# Altium schematic symbol library tsl_Schlib.SchLib: 381 symbols (part 3 of 3)
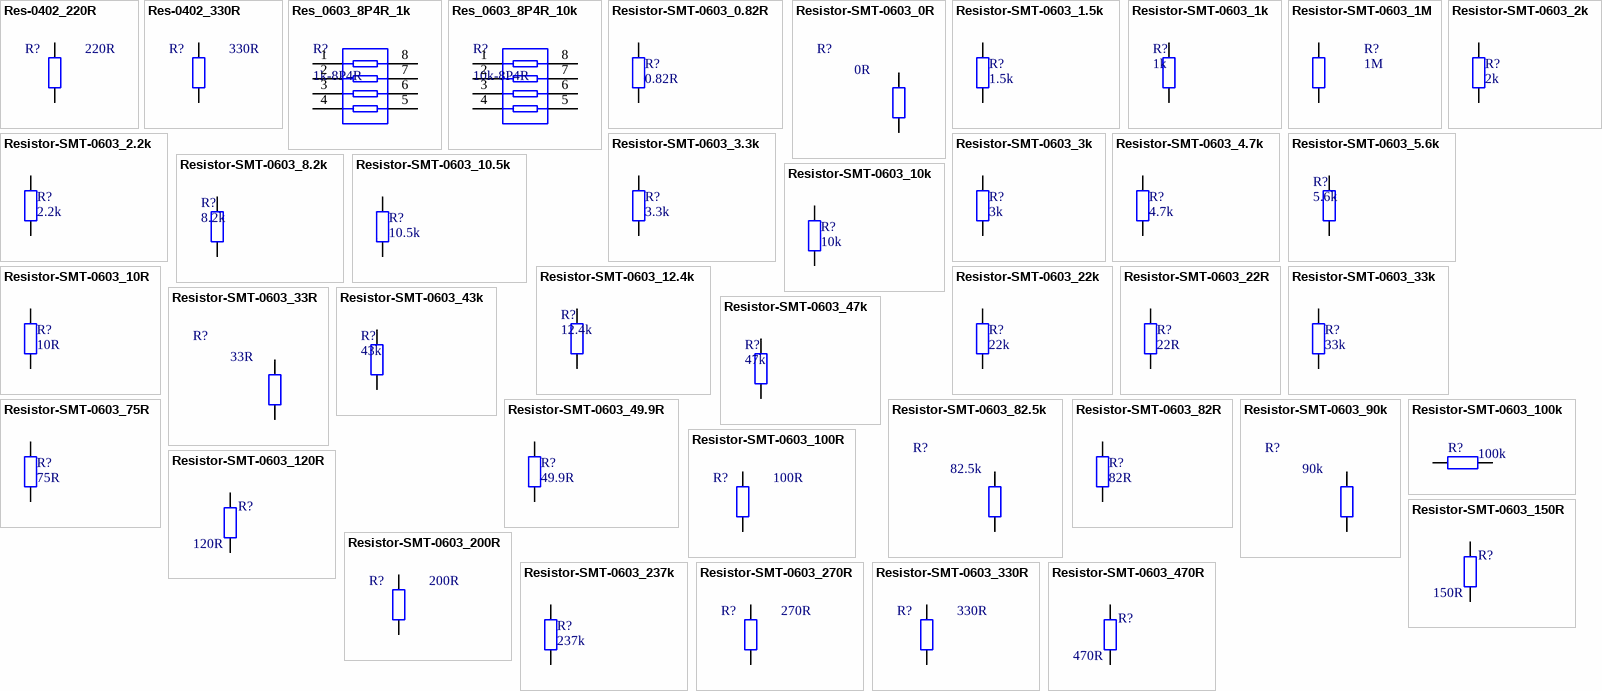
[diagram p12: symbols Res-0402_220R to Resistor-SMT-0603_470R]

## Resistor-SMT-0603_33R
designator R?, comment 33R
表贴电阻,0603,±1%,1/10W; Manufacturer: YAGO; Part Number: RP02.03.000154; LatestRevisionDate: 09-Feb-2017; LatestRevisionNote: SCHlib build; Publisher: ChenYinaho; PackageDescription: 0603R; Manufacturer Part Number: *; Value: 33R
footprint R0603
pins: 1, 2

## Resistor-SMT-0603_43k
designator R?, comment 43k
表贴电阻,0603,±5%,1/10W; Manufacturer: YAGO; Part Number: RP02.03.000151; LatestRevisionDate: 09-Feb-2017; LatestRevisionNote: SCHlib build; Publisher: ChenYinaho; PackageDescription: 0603R; Manufacturer Part Number: *; Value: 43k
footprint R0603
pins: 1, 2

## Resistor-SMT-0603_47k
designator R?, comment 47k
表贴电阻,0603,±5%,1/10W; Manufacturer: YAGO; Part Number: RP02.03.000061; LatestRevisionDate: 09-Feb-2017; LatestRevisionNote: SCHlib build; Publisher: ChenYinaho; PackageDescription: 0603R; Manufacturer Part Number: *; Value: 47k
footprint R0603
pins: 1, 2

## Resistor-SMT-0603_49.9R
designator R?, comment 49.9R
表贴电阻,0603,±1%,1/10W; Manufacturer: YAGO; Part Number: RP02.03.000089; LatestRevisionDate: 09-Feb-2017; LatestRevisionNote: SCHlib build; Publisher: ChenYinaho; PackageDescription: 0603R; Manufacturer Part Number: *; Value: 49.9R
footprint R0603
pins: 1, 2

## Resistor-SMT-0603_75R
designator R?, comment 75R
表贴电阻,0603,±5%,1/10W; Manufacturer: YAGO; Part Number: RP02.03.000091; LatestRevisionDate: 09-Feb-2017; LatestRevisionNote: SCHlib build; Publisher: ChenYinaho; PackageDescription: 0603R; Manufacturer Part Number: *; Value: 75R
footprint R0603
pins: 1, 2

## Resistor-SMT-0603_82.5k
designator R?, comment 82.5k
表贴电阻,0603,±1%,1/10W; Manufacturer: YAGO; Part Number: RP02.03.000101; LatestRevisionDate: 09-Feb-2017; LatestRevisionNote: SCHlib build; Publisher: ChenYinaho; PackageDescription: 0603R; Manufacturer Part Number: *; Value: 82.5k
footprint R0603
pins: 1, 2

## Resistor-SMT-0603_82R
designator R?, comment 82R
表贴电阻,0603,±5%,1/10W; Manufacturer: YAGO; Part Number: RP02.03.000157; LatestRevisionDate: 09-Feb-2017; LatestRevisionNote: SCHlib build; Publisher: ChenYinaho; PackageDescription: 0603R; Manufacturer Part Number: *; Value: 82R
footprint R0603
pins: 1, 2

## Resistor-SMT-0603_90k
designator R?, comment 90k
表贴电阻,0603,±5%,1/10W; Manufacturer: YAGO; Part Number: RP02.03.000159; LatestRevisionDate: 09-Feb-2017; LatestRevisionNote: SCHlib build; Publisher: ChenYinaho; PackageDescription: 0603R; Manufacturer Part Number: *; Value: 90k
footprint R0603
pins: 1, 2

## Resistor-SMT-0603_100k
designator R?, comment 100k
表贴电阻,0603,±5%,1/10W; Manufacturer: YAGO; Part Number: RP02.03.000052; LatestRevisionDate: 09-Feb-2017; LatestRevisionNote: SCHlib build; Publisher: ChenYinaho; PackageDescription: 0603R; Manufacturer Part Number: *; Value: 100k
footprint R0603
pins: 1, 2

## Resistor-SMT-0603_100R
designator R?, comment 100R
表贴电阻,0603,±5%,1/10W; Manufacturer: YAGO; Part Number: RP02.03.000053; LatestRevisionDate: 09-Feb-2017; LatestRevisionNote: SCHlib build; Publisher: ChenYinaho; PackageDescription: 0603R; Manufacturer Part Number: *; Value: 100R
footprint R0603
pins: 1, 2

## Resistor-SMT-0603_120R
designator R?, comment 120R
表贴电阻,0603,±5%,1/10W; Manufacturer: YAGO; Part Number: RP02.03.000105; LatestRevisionDate: 09-Feb-2017; LatestRevisionNote: SCHlib build; Publisher: ChenYinaho; PackageDescription: 0603R; Manufacturer Part Number: *; Value: 120R
footprint R0603
pins: 1, 2

## Resistor-SMT-0603_150R
designator R?, comment 150R
表贴电阻,0603,±5%,1/10W; Manufacturer: YAGO; Part Number: RP02.03.000153; LatestRevisionDate: 09-Feb-2017; LatestRevisionNote: SCHlib build; Publisher: ChenYinaho; PackageDescription: 0603R; Manufacturer Part Number: *; Value: 150R
footprint R0603
pins: 1, 2

## Resistor-SMT-0603_200R
designator R?, comment 200R
表贴电阻,0603,±5%,1/10W; Manufacturer: YAGO; Part Number: RP02.03.000106; LatestRevisionDate: 09-Feb-2017; LatestRevisionNote: SCHlib build; Publisher: ChenYinaho; PackageDescription: 0603R; Manufacturer Part Number: *; Value: 200R
footprint R0603
pins: 1, 2

## Resistor-SMT-0603_237k
designator R?, comment 237k
表贴电阻,0603,±1%,1/10W; Manufacturer: YAGO; Part Number: RP02.03.000102; LatestRevisionDate: 09-Feb-2017; LatestRevisionNote: SCHlib build; Publisher: ChenYinaho; PackageDescription: 0603R; Manufacturer Part Number: *; Value: 237k
footprint R0603
pins: 1, 2

## Resistor-SMT-0603_270R
designator R?, comment 270R
表贴电阻,0603,±5%,1/10W; Manufacturer: YAGO; Part Number: NEW; LatestRevisionDate: 09-Feb-2017; LatestRevisionNote: SCHlib build; Publisher: ChenYinaho; PackageDescription: 0603R; Manufacturer Part Number: *; Value: 270R
footprint R0603
pins: 1, 2

## Resistor-SMT-0603_330R
designator R?, comment 330R
表贴电阻,0603,±5%,1/10W; Manufacturer: YAGO; Part Number: RP02.03.000039; LatestRevisionDate: 09-Feb-2017; LatestRevisionNote: SCHlib build; Publisher: ChenYinaho; PackageDescription: 0603R; Manufacturer Part Number: *; Value: 330R
footprint R0603
pins: 1, 2

## Resistor-SMT-0603_470R
designator R?, comment 470R
表贴电阻,0603,±5%,1/10W; Manufacturer: YAGO; Part Number: RP02.03.000054; LatestRevisionDate: 09-Feb-2017; LatestRevisionNote: SCHlib build; Publisher: ChenYinaho; PackageDescription: 0603R; Manufacturer Part Number: *; Value: 470R
footprint R0603
pins: 1, 2

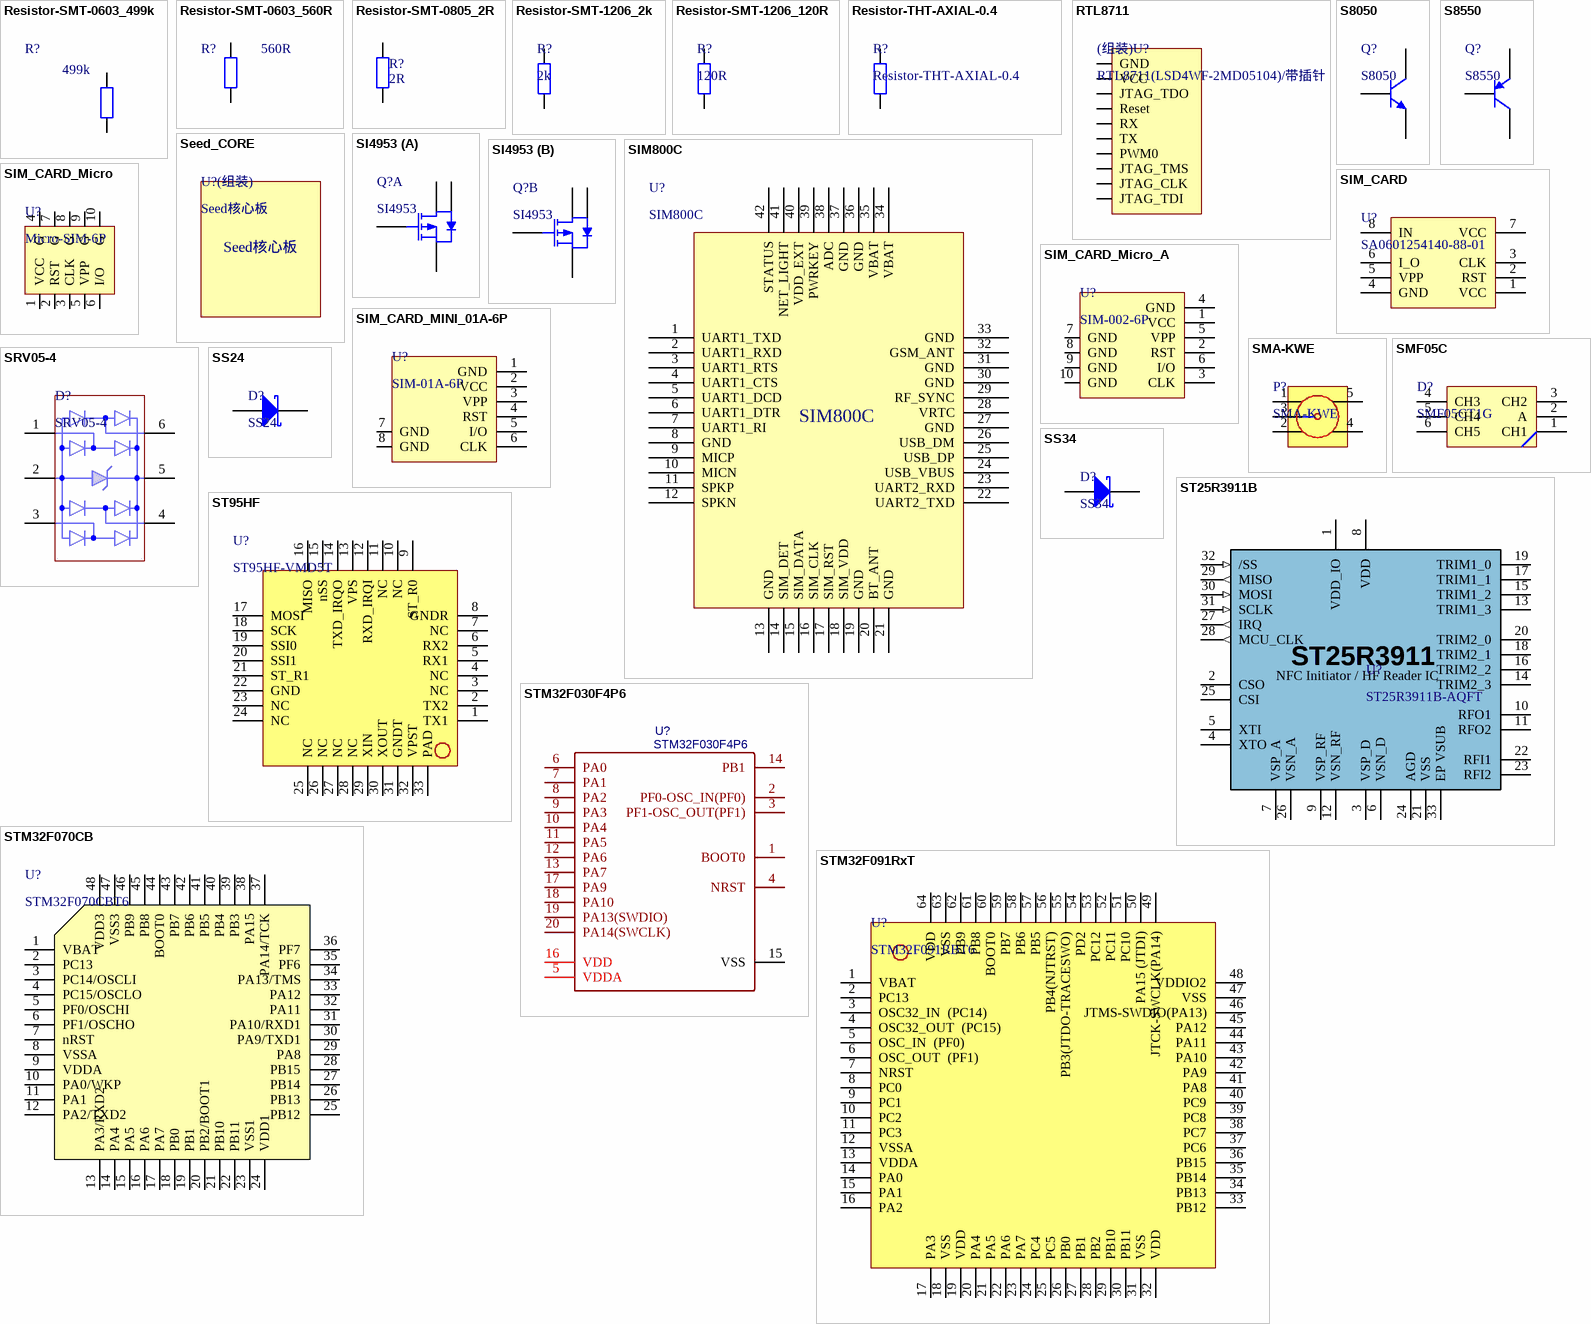
[diagram p8: symbols Resistor-SMT-0603_499k to STM32F091RxT]

## Resistor-SMT-0603_499k
designator R?, comment 499k
表贴电阻,0603,±1%,1/10W; Manufacturer: YAGO; Part Number: RP02.03.000098; LatestRevisionDate: 09-Feb-2017; LatestRevisionNote: SCHlib build; Publisher: ChenYinaho; PackageDescription: 0603R; Manufacturer Part Number: *; Value: 499k
footprint R0603
pins: 1, 2

## Resistor-SMT-0603_560R
designator R?, comment 560R
表贴电阻,0603,±5%,1/10W; Manufacturer: YAGO; Part Number: NEW; LatestRevisionDate: 09-Feb-2017; LatestRevisionNote: SCHlib build; Publisher: ChenYinaho; PackageDescription: 0603R; Manufacturer Part Number: *; Value: 560R
footprint R0603
pins: 1, 2

## Resistor-SMT-0805_2R
designator R?, comment 2R
表贴电阻,0805,±5%,1/8W; Manufacturer: YAGO; Part Number: RP02.03.000158; LatestRevisionDate: 09-Feb-2017; LatestRevisionNote: SCHlib build; Publisher: ChenYinaho; PackageDescription: 0603R; Manufacturer Part Number: *; Value: 2R
footprint R0805
pins: 1, 2

## Resistor-SMT-1206_2k
designator R?, comment 2k
表贴电阻,1206,±5%,1/4W; Manufacturer: YAGO; Part Number: NEW; LatestRevisionDate: 09-Feb-2017; LatestRevisionNote: SCHlib build; Publisher: ChenYinaho; PackageDescription: R1206; Manufacturer Part Number: *; Value: 2k
footprint R1206
pins: 1, 2

## Resistor-SMT-1206_120R
designator R?, comment 120R
表贴电阻,1206,±5%,1/4W; Manufacturer: YAGO; Part Number: RP02.03.000097; LatestRevisionDate: 09-Feb-2017; LatestRevisionNote: SCHlib build; Publisher: ChenYinaho; PackageDescription: R1206; Manufacturer Part Number: *; Value: 120R
footprint R1206
pins: 1, 2

## Resistor-THT-AXIAL-0.4
designator R?
直插电阻,AXIAL-0.4,±1%,1/4W; Manufacturer: YAGO; Value: 1K; LatestRevisionDate: 09-Feb-2017; LatestRevisionNote: SCHlib build; Publisher: ChenYinaho; PackageDescription: 0603R; Manufacturer Part Number: *
footprint AXIAL-0.4 (Axial Device, Thru-Hole; 2 Leads; 0.4 in Pin Spacing)
pins: 1, 2

## RTL8711
designator (组装)U?, comment RTL8711(LSD4WF-2MD05104)/带插针
WiFi模块; Part Number: RP02.05.000092; LatestRevisionDate: 09-Feb-2017; LatestRevisionNote: SCHlib build; Publisher: ChenYinaho; Manufacturer: *; Manufacturer Part Number: RTL8711; Value: RTL8711(LSD4WF-2MD05104)/带插针
pins: 1 GND, 2 VCC, 3 JTAG_TDO, 4 Reset, 5 RX, 6 TX, 7 PWM0, 8 JTAG_TMS, 9 JTAG_CLK, 10 JTAG_TDI

## S8050
designator Q?
贴片三极管NPN; Manufacturer: CJ江苏长电; Part Number: RP02.06.000042; LatestRevisionDate: 09-Feb-2017; LatestRevisionNote: SCHlib build; Publisher: ChenYinaho; PackageDescription: SOT23; Manufacturer Part Number: S8050; Value: S8050
footprint SOT-23
pins: 1 B, 2 E, 3 C

## S8550
designator Q?
贴片三极管PNP; Manufacturer: CJ江苏长电; Part Number: RP02.06.000052; LatestRevisionDate: 09-Feb-2017; LatestRevisionNote: SCHlib build; Publisher: ChenYinaho; PackageDescription: SOT23; Manufacturer Part Number: S8550; Value: S8550
footprint SOT-23
pins: 1 B, 2 E, 3 C

## Seed_CORE
designator U?(组装), comment Seed核心板
Seed核心板 V1.1; Part Number: NEW; LatestRevisionDate: 09-Feb-2017; LatestRevisionNote: SCHlib build; Publisher: ChenYinaho; Value: Seed核心板
footprint Seed_CORE (Footprint not found)

## SI4953
designator Q?
PMOS; Part Number: NEW; LatestRevisionDate: 09-Feb-2017; LatestRevisionNote: SCHlib build; Publisher: ChenYinaho; Manufacturer: *; Manufacturer Part Number: SI4953; Value: SI4953
footprint SOP8_6.0X1.27 (Footprint not found)
part A pins: 1 S1, 2 G1, 7 D1, 8 D1
part B pins: 3 S2, 4 G2, 5 D2, 6 D2

## SIM800C
designator U?
GPRS模块; Part Number: RP02.05.000163; LatestRevisionDate: 09-Feb-2017; LatestRevisionNote: SCHlib build; Publisher: ChenYinaho; Manufacturer: *; Manufacturer Part Number: SIM800C; Value: SIM800C
footprint SIM800C
pins: 1 UART1_TXD, 2 UART1_RXD, 3 UART1_RTS, 4 UART1_CTS, 5 UART1_DCD, 6 UART1_DTR, 7 UART1_RI, 8 GND, 9 MICP, 10 MICN, 11 SPKP, 12 SPKN, 13 GND, 14 SIM_DET, 15 SIM_DATA, 16 SIM_CLK, 17 SIM_RST, 18 SIM_VDD, 19 GND, 20 BT_ANT, 21 GND, 22 UART2_TXD, 23 UART2_RXD, 24 USB_VBUS, 25 USB_DP, 26 USB_DM, 27 GND, 28 VRTC, 29 RF_SYNC, 30 GND, 31 GND, 32 GSM_ANT, 33 GND, 34 VBAT, 35 VBAT, 36 GND, 37 GND, 38 ADC, 39 PWRKEY, 40 VDD_EXT, 41 NET_LIGHT, 42 STATUS

## SIM_CARD
designator U?, comment SA0601254140-88-01
贴片SIM卡座; Part Number: RP02.07.000117; LatestRevisionDate: 09-Feb-2017; LatestRevisionNote: SCHlib build; Publisher: ChenYinaho; Manufacturer: *; Manufacturer Part Number: SA0601254140-88-01; Value: SA0601254140-88-01
footprint CARD_SIM (Footprint not found)
pins: 1 VCC, 2 RST, 3 CLK, 4 GND, 5 VPP, 6 I_O, 7 VCC, 8 IN

## SIM_CARD_Micro
designator U?, comment Micro-SIM-6P
贴片Micro-SIM卡座-6P自弹; Manufacturer Part Number: SA0601254140-88-01; LatestRevisionDate: 09-Feb-2017; LatestRevisionNote: SCHlib build; Publisher: ChenYinaho; Manufacturer: *; Part Number: --; Value: Micro-SIM-6P
footprint CARD_SIM_NANO
pins: 1 VCC, 2 RST, 3 CLK, 4 G, 5 VPP, 6 I/O, 7 G, 8 G, 9 G, 10 G

## SIM_CARD_Micro_A
designator U?, comment SIM-002-6P
贴片Micro-SIM卡座-6P自弹; Manufacturer: SOFNG(台湾硕方); Part Number: NEW; LatestRevisionDate: 09-Feb-2017; LatestRevisionNote: SCHlib build; Publisher: ChenYinaho; Manufacturer Part Number: SIM-002-6P; Value: SIM-002-6P
footprint MICRO SIM 6P (自弹MICROSIM卡座 SIM-002-6P)
pins: 1 VCC, 2 RST, 3 CLK, 4 GND, 5 VPP, 6 I/O, 7 GND, 8 GND, 9 GND, 10 GND

## SIM_CARD_MINI_01A-6P
designator U?, comment SIM-01A-6P
贴片MINI-SIM卡座-6P翻盖; Manufacturer: HRO(韩国韩荣); Part Number: RP02.07.000180; LatestRevisionDate: 09-Feb-2017; LatestRevisionNote: SCHlib build; Publisher: ChenYinaho; Manufacturer Part Number: SIM-01A-6P; Value: SIM-01A-6P
footprint MINI SIM-01A 6P (Footprint not found)
pins: 1 GND, 2 VCC, 3 VPP, 4 RST, 5 I/O, 6 CLK, 7 GND, 8 GND

## SMA-KWE
designator P?
SMA射频座 弯脚外螺内孔 90度卧式; Part Number: NEW; LatestRevisionDate: 09-Feb-2017; LatestRevisionNote: SCHlib build; Publisher: ChenYinaho; Manufacturer: *; Manufacturer Part Number: *; Value: SMA-KWE
footprint SMA-KWE
pins: 1, 2, 3, 4, 5

## SMF05C
designator D?, comment SMF05CT1G
TVS阵列; Manufacturer: ON(安森美); Part Number: RP02.05.000090; LatestRevisionDate: 09-Feb-2017; LatestRevisionNote: SCHlib build; Publisher: ChenYinaho; PackageDescription: SC-70-6(SOT-363); Manufacturer Part Number: SMF05CT1G; Value: SMF05CT1G
footprint SOT-363 (Footprint not found)
pins: 1 CH1, 2 A, 3 CH2, 4 CH3, 5 CH4, 6 CH5

## SRV05-4
designator D?
TVS阵列; Part Number: RP02.15.000006; LatestRevisionDate: 09-Feb-2017; LatestRevisionNote: SCHlib build; Publisher: ChenYinaho; PackageDescription: SOT23-6; Manufacturer: --; Manufacturer Part Number: SRV05-4; Value: SRV05-4
footprint SOT23-6 (SOT23, 5-Leads, Body 2.9x1.6mm, Pitch 0.95mm, Lead Span 2.8mm, IPC Low Density)
pins: 1, 2, 3, 4, 5, 6

## SS24
designator D?
肖特基二极管; Manufacturer: VISHAY(威世); Part Number: RP02.06.000015; LatestRevisionDate: 09-Feb-2017; LatestRevisionNote: SCHlib build; Publisher: ChenYinaho; PackageDescription: SMB; Manufacturer Part Number: *; Value: SS24
footprint SMB (Footprint not found)
pins: 1 A, 2 K

## SS34
designator D?
肖特基二极管; Part Number: RP02.06.000063; LatestRevisionDate: 09-Feb-2017; LatestRevisionNote: SCHlib build; Publisher: ChenYinaho; PackageDescription: SMC; Manufacturer: *; Manufacturer Part Number: *; Value: SS34
footprint SMC (Footprint not found)
pins: 1 A, 2 K

## ST25R3911B
designator U?, comment ST25R3911B-AQFT
NFC芯片; Manufacturer: ST; Part Number: RP02.05.000161; LatestRevisionDate: 30-Sep-2017; LatestRevisionNote: SCHlib build; Publisher: ChenYinaho; Manufacturer Part Number: ST25R3911B-AQFT; Value: ST25R3911B-AQFT
footprint QFN32_5X5_0.5 (Footprint not found)
pins: 1 VDD_IO (power), 2 CSO, 3 VSP_D, 4 XTO, 5 XTI, 6 VSN_D (power), 7 VSP_A, 8 VDD (power), 9 VSP_RF, 10 RFO1, 11 RFO2, 12 VSN_RF (power), 13 TRIM1_3, 14 TRIM2_3, 15 TRIM1_2, 16 TRIM2_2, 17 TRIM1_1, 18 TRIM2_1, 19 TRIM1_0, 20 TRIM2_0, 21 VSS (power), 22 RFI1, 23 RFI2, 24 AGD, 25 CSI, 26 VSN_A (power), 27 IRQ (out), 28 MCU_CLK (out), 29 MISO (out), 30 MOSI (in), 31 SCLK (in), 32 /SS (in), 33 EP VSUB
text: ST25R3911; NFC Initiator / HF Reader IC

## ST95HF
designator U?, comment ST95HF-VMD5T
NFC芯片; Part Number: RP02.05.000041; LatestRevisionDate: 09-Feb-2017; LatestRevisionNote: SCHlib build; Publisher: ChenYinaho; Manufacturer: *; Manufacturer Part Number: ST95HF-VMD5T; Value: ST95HF-VMD5T
footprint QFN32 (Footprint not found)
pins: 1 TX1, 2 TX2, 3 NC, 4 NC, 5 RX1, 6 RX2, 7 NC, 8 GNDR, 9 ST_R0, 10 NC, 11 NC, 12 RXD_IRQI, 13 VPS, 14 TXD_IRQO, 15 nSS, 16 MISO, 17 MOSI, 18 SCK, 19 SSI0, 20 SSI1, 21 ST_R1, 22 GND, 23 NC, 24 NC, 25 NC, 26 NC, 27 NC, 28 NC, 29 XIN, 30 XOUT, 31 GNDT, 32 VPST, 33 PAD

## STM32F030F4P6
designator U?
BOM_Manufacturer: STMicroelectronics; BOM_Supplier: LCSC; BOM_Manufacturer Part: STM32F030F4P6; BOM_LCSC Assembly: Yes; image: //image.lceda.cn/szlcsc/C32908.jpg; BOM_Supplier Part: C32908; spicePre: U
footprint TSSOP-20
pins: 1 BOOT0, 2 PF0-OSC_IN(PF0), 3 PF1-OSC_OUT(PF1), 4 NRST, 5 VDDA, 6 PA0, 7 PA1, 8 PA2, 9 PA3, 10 PA4, 11 PA5, 12 PA6, 13 PA7, 14 PB1, 15 VSS, 16 VDD, 17 PA9, 18 PA10, 19 PA13(SWDIO), 20 PA14(SWCLK)

## STM32F070CB
designator U?, comment STM32F070CBT6
MCU IC; Manufacturer: ST; Part Number: RP02.05.000048; LatestRevisionDate: 09-Feb-2017; LatestRevisionNote: SCHlib build; Publisher: ChenYinaho; Manufacturer Part Number: STM32F070CBT6; Value: STM32F070CBT6
footprint LQFP48
pins: 1 VBAT, 2 PC13, 3 PC14/OSCLI, 4 PC15/OSCLO, 5 PF0/OSCHI, 6 PF1/OSCHO, 7 nRST, 8 VSSA, 9 VDDA, 10 PA0/WKP, 11 PA1, 12 PA2/TXD2, 13 PA3/RXD2, 14 PA4, 15 PA5, 16 PA6, 17 PA7, 18 PB0, 19 PB1, 20 PB2/BOOT1, 21 PB10, 22 PB11, 23 VSS1, 24 VDD1, 25 PB12, 26 PB13, 27 PB14, 28 PB15, 29 PA8, 30 PA9/TXD1, 31 PA10/RXD1, 32 PA11, 33 PA12, 34 PA13/TMS, 35 PF6, 36 PF7, 37 PA14/TCK, 38 PA15, 39 PB3, 40 PB4, 41 PB5, 42 PB6, 43 PB7, 44 BOOT0, 45 PB8, 46 PB9, 47 VSS3, 48 VDD3

## STM32F091RxT
designator U?, comment STM32F091RBT6
MCU IC; Manufacturer: ST; Part Number: NEW; LatestRevisionDate: 09-Feb-2017; LatestRevisionNote: SCHlib build; Publisher: ChenYinaho; Manufacturer Part Number: STM32F091RBT6; Value: STM32F091RBT6
footprint LQFP64
pins: 1 VBAT, 2 PC13, 3 OSC32_IN  (PC14), 4 OSC32_OUT  (PC15), 5 OSC_IN  (PF0), 6 OSC_OUT  (PF1), 7 NRST, 8 PC0, 9 PC1, 10 PC2, 11 PC3, 12 VSSA, 13 VDDA, 14 PA0, 15 PA1, 16 PA2, 17 PA3, 18 VSS, 19 VDD, 20 PA4, 21 PA5, 22 PA6, 23 PA7, 24 PC4, 25 PC5, 26 PB0, 27 PB1, 28 PB2, 29 PB10, 30 PB11, 31 VSS, 32 VDD, 33 PB12, 34 PB13, 35 PB14, 36 PB15, 37 PC6, 38 PC7, 39 PC8, 40 PC9, 41 PA8, 42 PA9, 43 PA10, 44 PA11, 45 PA12, 46 JTMS-SWDIO(PA13), 47 VSS, 48 VDDIO2, 49 JTCK-SWCLK(PA14), 50 PA15 (JTDI), 51 PC10, 52 PC11, 53 PC12, 54 PD2, 55 PB3(JTDO-TRACESWO), 56 PB4(NJTRST), 57 PB5, 58 PB6, 59 PB7, 60 BOOT0, 61 PB8, 62 PB9, 63 VSS, 64 VDD

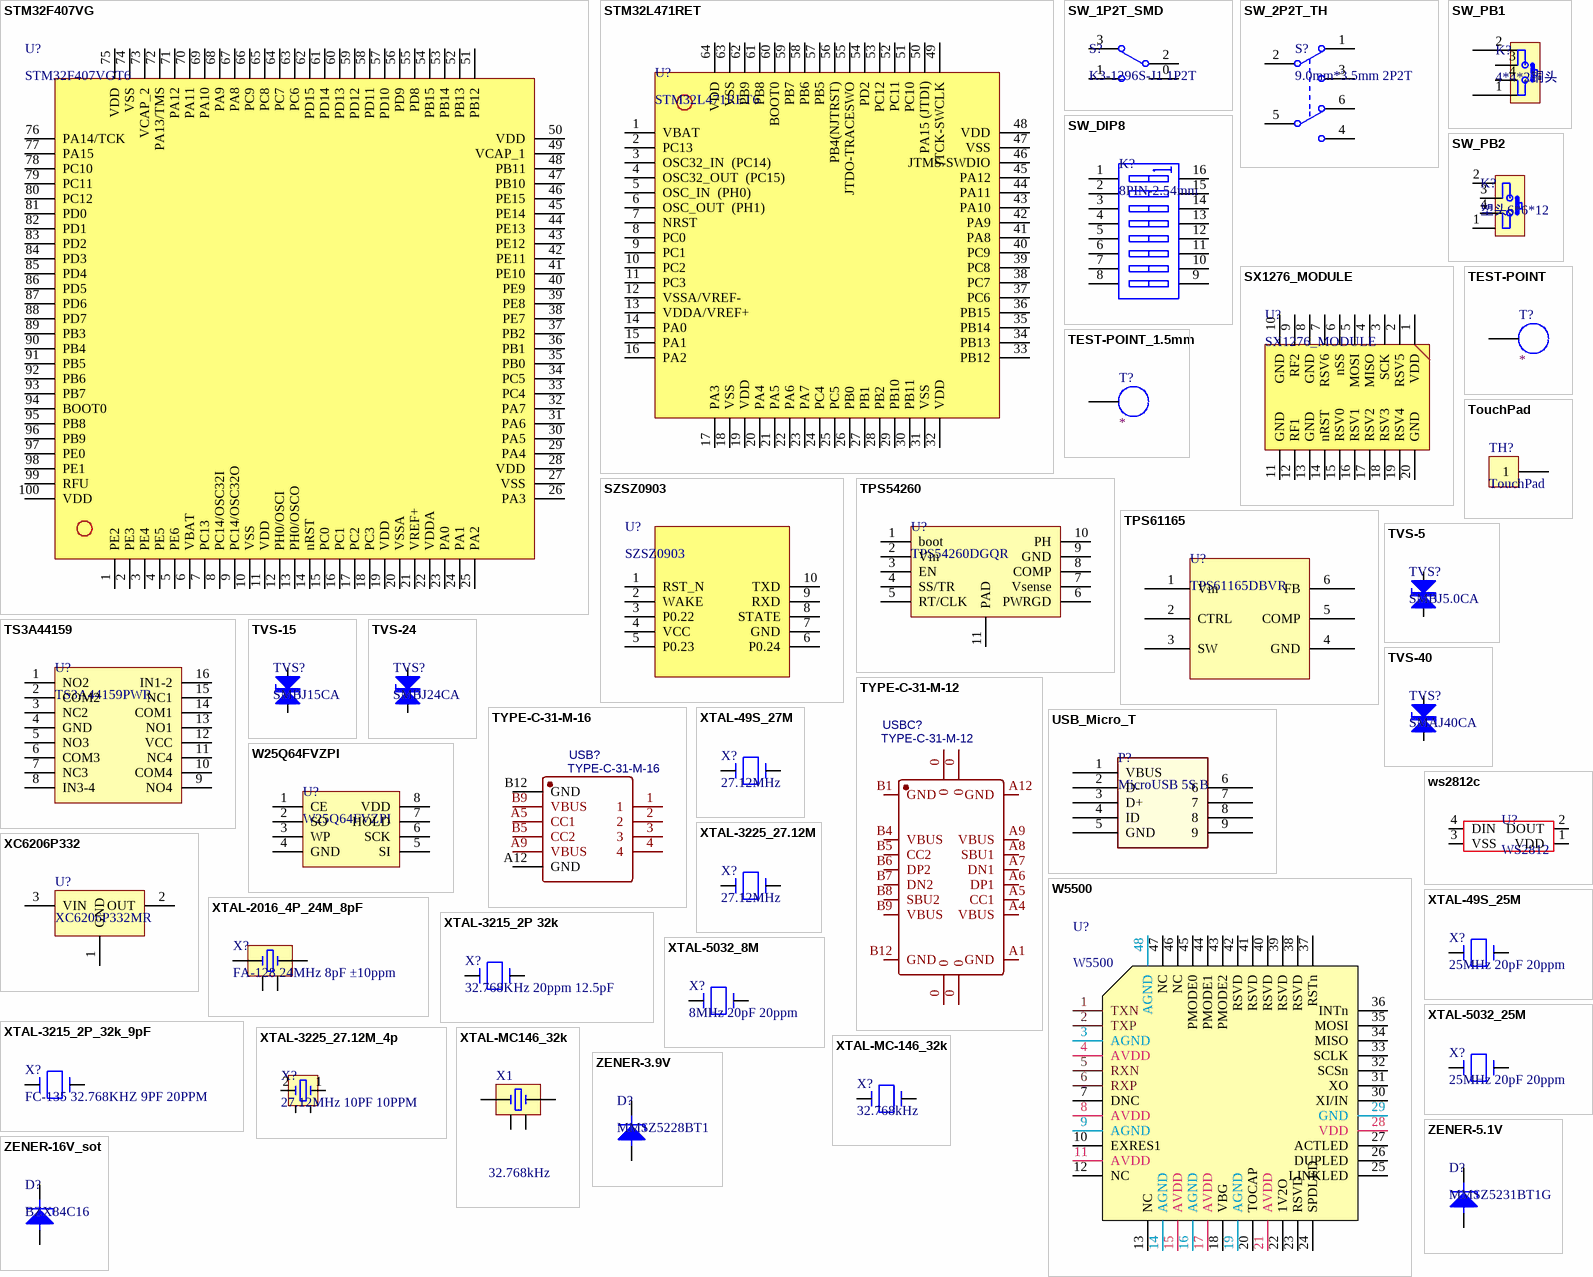
[diagram p9: symbols STM32F407VG to ZENER-16V_sot]

## STM32F407VG
designator U?, comment STM32F407VGT6
MCU IC; Manufacturer: ST; Part Number: RP02.05.000084; LatestRevisionDate: 09-Feb-2017; LatestRevisionNote: SCHlib build; Publisher: ChenYinaho; Manufacturer Part Number: STM32F407VGT6; Value: STM32F407VGT6
footprint LQFP100 (Footprint not found)
pins: 1 PE2, 2 PE3, 3 PE4, 4 PE5, 5 PE6, 6 VBAT, 7 PC13, 8 PC14/OSC32I, 9 PC14/OSC32O, 10 VSS, 11 VDD, 12 PH0/OSCI, 13 PH0/OSCO, 14 nRST, 15 PC0, 16 PC1, 17 PC2, 18 PC3, 19 VDD, 20 VSSA, 21 VREF+, 22 VDDA, 23 PA0, 24 PA1, 25 PA2, 26 PA3, 27 VSS, 28 VDD, 29 PA4, 30 PA5, 31 PA6, 32 PA7, 33 PC4, 34 PC5, 35 PB0, 36 PB1, 37 PB2, 38 PE7, 39 PE8, 40 PE9, 41 PE10, 42 PE11, 43 PE12, 44 PE13, 45 PE14, 46 PE15, 47 PB10, 48 PB11, 49 VCAP_1, 50 VDD, 51 PB12, 52 PB13, 53 PB14, 54 PB15, 55 PD8, 56 PD9, 57 PD10, 58 PD11, 59 PD12, 60 PD13, 61 PD14, 62 PD15, 63 PC6, 64 PC7, 65 PC8, 66 PC9, 67 PA8, 68 PA9, 69 PA10, 70 PA11, 71 PA12, 72 PA13/TMS, 73 VCAP_2, 74 VSS, 75 VDD, 76 PA14/TCK, 77 PA15, 78 PC10, 79 PC11, 80 PC12, 81 PD0, 82 PD1, 83 PD2, 84 PD3, 85 PD4, 86 PD5, 87 PD6, 88 PD7, 89 PB3, 90 PB4, 91 PB5, 92 PB6, 93 PB7, 94 BOOT0, 95 PB8, 96 PB9, 97 PE0, 98 PE1, 99 RFU, 100 VDD

## STM32L471RET
designator U?, comment STM32L471RET6
MCU IC; Manufacturer: ST; Part Number: RP02.05.000160; LatestRevisionDate: 09-Feb-2017; LatestRevisionNote: SCHlib build; Publisher: ChenYinaho; Manufacturer Part Number: STM32L471RET6; Value: STM32L471RET6
footprint LQFP64
pins: 1 VBAT, 2 PC13, 3 OSC32_IN  (PC14), 4 OSC32_OUT  (PC15), 5 OSC_IN  (PH0), 6 OSC_OUT  (PH1), 7 NRST, 8 PC0, 9 PC1, 10 PC2, 11 PC3, 12 VSSA/VREF-, 13 VDDA/VREF+, 14 PA0, 15 PA1, 16 PA2, 17 PA3, 18 VSS, 19 VDD, 20 PA4, 21 PA5, 22 PA6, 23 PA7, 24 PC4, 25 PC5, 26 PB0, 27 PB1, 28 PB2, 29 PB10, 30 PB11, 31 VSS, 32 VDD, 33 PB12, 34 PB13, 35 PB14, 36 PB15, 37 PC6, 38 PC7, 39 PC8, 40 PC9, 41 PA8, 42 PA9, 43 PA10, 44 PA11, 45 PA12, 46 JTMS-SWDIO, 47 VSS, 48 VDD, 49 JTCK-SWCLK, 50 PA15 (JTDI), 51 PC10, 52 PC11, 53 PC12, 54 PD2, 55 JTDO-TRACESWO, 56 PB4(NJTRST), 57 PB5, 58 PB6, 59 PB7, 60 BOOT0, 61 PB8, 62 PB9, 63 VSS, 64 VDD

## SW_1P2T_SMD
designator S?, comment K3-1296S-J1 1P2T
拨动开关/单刀双掷 卧贴 侧拨 7P; Manufacturer: 韩国韩荣; Part Number: NEW(C223848); LatestRevisionDate: 09-Feb-2017; LatestRevisionNote: SCHlib build; Publisher: ChenYinaho; Manufacturer Part Number: K3-1296S-J1; Value: K3-1296S-J1 1P2T
footprint K3-1296S-J1 (Footprint not found)
pins: 0, 1, 2, 3

## SW_2P2T_TH
designator S?, comment 9.0mm*3.5mm 2P2T
拨动开关/双刀双掷 卧插 侧拨; Manufacturer: 韩国韩荣; Manufacturer Part Number: K3-2245D-K1; Part Number: NEW(C223864); LatestRevisionDate: 09-Feb-2017; LatestRevisionNote: SCHlib build; Publisher: ChenYinaho; Value: 9.0mm*3.5mm 2P2T
footprint K3-2245D (Footprint not found)
pins: 1 COMMON1, 2 NC1, 3 NO1, 4 NC2, 5 COMMON2, 6 NO2

## SW_DIP8
designator K?, comment 8PIN-2.54mm
拨码开关/蓝色 立式直插 侧拨 凸柄; Manufacturer: 韩国韩荣; Manufacturer Part Number: DP-08BP; Part Number: NEW; LatestRevisionDate: 09-Feb-2017; LatestRevisionNote: SCHlib build; Publisher: ChenYinaho; Value: 8PIN-2.54mm
footprint SW_DIP8 (Footprint not found)
pins: 1 A1, 2 A2, 3 A3, 4 A4, 5 A5, 6 A6, 7 A7, 8 A8, 9 B8, 10 B7, 11 B6, 12 B5, 13 B4, 14 B3, 15 B2, 16 B1

## SW_PB1
designator K?, comment 4*4*2铜头
贴片按键; Part Number: RP02.11.000010; LatestRevisionDate: 09-Feb-2017; LatestRevisionNote: SCHlib build; Publisher: ChenYinaho; Manufacturer: *; Manufacturer Part Number: *; Value: 4*4*2铜头
footprint SW4X4_SMT (Footprint not found)
pins: 1, 2, 3, 4

## SW_PB2
designator K?, comment 塑头6*6*12
直插侧按按键，带支架; Part Number: NEW; LatestRevisionDate: 09-Feb-2017; LatestRevisionNote: SCHlib build; Publisher: ChenYinaho; Manufacturer: *; Manufacturer Part Number: *; Value: 塑头6*6*12
footprint button-6*6侧按 (Footprint not found)
pins: 1, 2, 3, 4

## SX1276_MODULE
designator U?
LoRa模块; Part Number: BP02.000029; LatestRevisionDate: 09-Feb-2017; LatestRevisionNote: SCHlib build; Publisher: ChenYinaho; Manufacturer: *; Manufacturer Part Number: *; Value: SX1276_MODULE
footprint GEN_RF_MODULE (Footprint not found)
pins: 1 VDD, 2 RSV5, 3 SCK, 4 MISO, 5 MOSI, 6 nSS, 7 RSV6, 8 GND, 9 RF2, 10 GND, 11 GND, 12 RF1, 13 GND, 14 nRST, 15 RSV0, 16 RSV1, 17 RSV2, 18 RSV3, 19 RSV4, 20 GND

## SZSZ0903
designator U?
蓝牙模块; Part Number: NEW; LatestRevisionDate: 09-Feb-2017; LatestRevisionNote: SCHlib build; Publisher: ChenYinaho; Manufacturer: *; Manufacturer Part Number: SZSZ0903; Value: SZSZ0903
footprint SZSZ0903 (Footprint not found)
pins: 1 RST_N, 2 WAKE, 3 P0.22, 4 VCC, 5 P0.23, 6 P0.24, 7 GND, 8 STATE, 9 RXD, 10 TXD

## TEST-POINT
designator T?  (net tie)
测试点; Part Number: Delete in BOM; Value: *
footprint TEST-POINT
footprint HOLE
footprint TEST-POINT (Footprint not found)
footprint HOLE3x4
footprint TP-1
footprint SZSZ0903-pad
pins: 1

## TEST-POINT_1.5mm
designator T?
测试点; Part Number: Delete in BOM; Value: *
footprint TEST-POINT
footprint HOLE
footprint TEST-POINT (Footprint not found)
footprint HOLE3x4
footprint TP-1.5mm (Footprint not found)
pins: 1

## TouchPad
designator TH?
触摸按键; Part Number: Delete in BOM; LatestRevisionDate: 09-Feb-2017; LatestRevisionNote: SCHlib build; Publisher: ChenYinaho; PackageDescription: *; Manufacturer: *; Manufacturer Part Number: *; Value: TouchPad
footprint T_8_12_T
pins: 1

## TPS54260
designator U?, comment TPS54260DGQR
DC-DC IC; Manufacturer: TI; Part Number: RP02.05.000107; LatestRevisionDate: 09-Feb-2017; LatestRevisionNote: SCHlib build; Publisher: ChenYinaho; Manufacturer Part Number: TPS54260DGQR; Value: TPS54260DGQR
footprint MSOP10 (Footprint not found)
pins: 1 boot, 2 Vin, 3 EN, 4 SS/TR, 5 RT/CLK, 6 PWRGD, 7 Vsense, 8 COMP, 9 GND, 10 PH, 11 PAD

## TPS61165
designator U?, comment TPS61165DBVR
LED驱动器IC; Manufacturer: TI; Part Number: RP02.05.000110; LatestRevisionDate: 09-Feb-2017; LatestRevisionNote: SCHlib build; Publisher: ChenYinaho; PackageDescription: SOT23-6; Manufacturer Part Number: TPS61165DBVR; Value: TPS61165DBVR
footprint SOT23-6 (SOT23, 5-Leads, Body 2.9x1.6mm, Pitch 0.95mm, Lead Span 2.8mm, IPC Low Density)
pins: 1 Vin, 2 CTRL, 3 SW, 4 GND, 5 COMP, 6 FB

## TS3A44159
designator U?, comment TS3A44159PWR
4 通道 2:1 模拟开关; Manufacturer: TI; Part Number: NEW; LatestRevisionDate: 09-Feb-2017; LatestRevisionNote: SCHlib build; Publisher: ChenYinaho; Manufacturer Part Number: TS3A44159PWR; Value: TS3A44159PWR
footprint TSSOP16 (Footprint not found)
pins: 1 NO2, 2 COM2, 3 NC2, 4 GND, 5 NO3, 6 COM3, 7 NC3, 8 IN3-4, 9 NO4, 10 COM4, 11 NC4, 12 VCC, 13 NO1, 14 COM1, 15 NC1, 16 IN1-2

## TVS-5
designator TVS?, comment SMBJ5.0CA
TVS; Manufacturer: Brightking(君耀); Part Number: RP02.15.000003; LatestRevisionDate: 09-Feb-2017; LatestRevisionNote: SCHlib build; Publisher: ChenYinaho; PackageDescription: SMB; Manufacturer Part Number: SMBJ5.0CA; Value: SMBJ5.0CA
footprint SMB
pins: 1, 2

## TVS-15
designator TVS?, comment SMBJ15CA
TVS; Manufacturer: Brightking(君耀); Part Number: RP02.15.000001; LatestRevisionDate: 09-Feb-2017; LatestRevisionNote: SCHlib build; Publisher: ChenYinaho; PackageDescription: SMB; Manufacturer Part Number: SMBJ15CA; Value: SMBJ15CA
footprint SMB
pins: 1, 2

## TVS-24
designator TVS?, comment SMBJ24CA
TVS; Manufacturer: Brightking(君耀); Part Number: RP02.15.000008; LatestRevisionDate: 11-Nov-2017; LatestRevisionNote: SCHlib build; Publisher: ChenYinaho; PackageDescription: SMB; Manufacturer Part Number: SMBJ24CA; Value: SMBJ24CA
footprint SMB
pins: 1, 2

## TVS-40
designator TVS?, comment SMAJ40CA
TVS; Manufacturer: Brightking(君耀); Part Number: RP02.03.000046; LatestRevisionDate: 09-Feb-2017; LatestRevisionNote: SCHlib build; Publisher: ChenYinaho; PackageDescription: SMB; Manufacturer Part Number: SMAJ40CA; Value: SMAJ40CA
footprint SMB
pins: 1, 2

## TYPE-C-31-M-12
designator USBC?
BOM_Manufacturer: Rectangular Connectors - Contacts; Contributor: LCSC; BOM_Supplier: LCSC; BOM_Supplier Part: C165948; BOM_Manufacturer Part: TYPE-C-31-M-12; spicePre: U
footprint TYPE-C-USB-17
pins: 0, 0, 0, 0, A1 GND, A4 VBUS, A5 CC1, A6 DP1, A7 DN1, A8 SBU1, A9 VBUS, A12 GND, B1 GND, B4 VBUS, B5 CC2, B6 DP2, B7 DN2, B8 SBU2, B9 VBUS, B12 GND

## TYPE-C-31-M-16
designator USB?
BOM_Manufacturer: Korean Hroparts Elec; Contributor: LCSC; BOM_Supplier: LCSC; BOM_Supplier Part: C283541; BOM_Manufacturer Part: TYPE-C-31-M-16; spicePre: U
footprint TYPE-C-31-M-16
pins: 1, 2, 3, 4, A5 CC1, A9 VBUS, A12 GND, B5 CC2, B9 VBUS, B12 GND

## USB_Micro_T
designator P?, comment MicroUSB 5S B
MicroUSB座 5S B型 4脚全插牛角型短针; Part Number: NEW; LatestRevisionDate: 09-Feb-2017; LatestRevisionNote: SCHlib build; Publisher: ChenYinaho; Manufacturer: *; Manufacturer Part Number: MicroUSB 5S B; Value: MicroUSB 5S B
footprint MICRO_USB_5S_B_SMD
pins: 1 VBUS, 2 D-, 3 D+, 4 ID, 5 GND, 6, 7, 8, 9

## W25Q64FVZPI
designator U?
Flash; Manufacturer: Winbond; Part Number: RP02.05.000159; LatestRevisionDate: 09-Feb-2017; LatestRevisionNote: SCHlib build; Publisher: ChenYinaho; Manufacturer Part Number: W25Q64FVZPI; Value: W25Q64FVZPI
footprint WSON_6x5
pins: 1 CE, 2 SO, 3 WP, 4 GND, 5 SI, 6 SCK, 7 HOLD, 8 VDD

## W5500
designator U?
以太网控制器IC; Manufacturer: WIZNET; Part Number: RP02.05.000158; LatestRevisionDate: 09-Feb-2017; LatestRevisionNote: SCHlib build; Publisher: ChenYinaho; PackageDescription: LQFP-48; Manufacturer Part Number: W5500; Value: W5500
footprint LQFP48
pins: 1 TXN, 2 TXP, 3 AGND, 4 AVDD, 5 RXN, 6 RXP, 7 DNC, 8 AVDD, 9 AGND, 10 EXRES1, 11 AVDD, 12 NC, 13 NC, 14 AGND, 15 AVDD, 16 AGND, 17 AVDD, 18 VBG, 19 AGND, 20 TOCAP, 21 AVDD, 22 1V2O, 23 RSVD, 24 SPDLED, 25 LINKLED, 26 DUPLED, 27 ACTLED, 28 VDD, 29 GND, 30 XI/IN, 31 XO, 32 SCSn, 33 SCLK, 34 MISO, 35 MOSI, 36 INTn, 37 RSTn, 38 RSVD, 39 RSVD, 40 RSVD, 41 RSVD, 42 RSVD, 43 PMODE2, 44 PMODE1, 45 PMODE0, 46 NC, 47 NC, 48 AGND

## ws2812c
designator U?, comment WS2812
RGB; value: WS2812
footprint LED-5050_4P
pins: 1 VDD, 2 DOUT, 3 VSS, 4 DIN

## XC6206P332
designator U?, comment XC6206P332MR
LDO IC; Manufacturer: TOREX(特瑞仕); Part Number: RP02.05.000108; LatestRevisionDate: 09-Feb-2017; LatestRevisionNote: SCHlib build; Publisher: ChenYinaho; PackageDescription: SOT23; Manufacturer Part Number: XC6206P332MR; Value: XC6206P332MR
footprint SOT-23
pins: 1 GND, 2 OUT, 3 VIN

## XTAL-49S_25M
designator X?, comment 25MHz 20pF 20ppm
直插无源晶体49S; Part Number: RP02.12.000009; LatestRevisionDate: 09-Feb-2017; LatestRevisionNote: SCHlib build; Publisher: ChenYinaho; Manufacturer: *; Manufacturer Part Number: *; Value: 25MHz 20pF 20ppm
footprint XTAL-49S-DIP (Footprint not found)
pins: 1, 2

## XTAL-49S_27M
designator X?, comment 27.12MHz
贴片无源晶体49S; Part Number: RP02.12.000018; LatestRevisionDate: 09-Feb-2017; LatestRevisionNote: SCHlib build; Publisher: ChenYinaho; Manufacturer: *; Manufacturer Part Number: *; Value: 27.12MHz
footprint XTAL-49S-SMT (Footprint not found)
footprint XTAL-2X6-DIP (Footprint not found)
pins: 1, 2

## XTAL-2016_4P_24M_8pF
designator X?, comment FA-128 24MHz 8pF ±10ppm
贴片无源晶体2016; Manufacturer: EPSON(爱普生); Manufacturer Part Number: Q22FA12800120; Part Number: NEW; LatestRevisionDate: 09-Feb-2017; LatestRevisionNote: SCHlib build; Publisher: ChenYinaho; Value: FA-128 24MHz 8pF ±10ppm
footprint FA-128 (Footprint not found)
pins: 1, 2, 3, 4

## XTAL-3215_2P 32k
designator X?, comment 32.768KHz 20ppm 12.5pF
贴片无源晶体SMD-3215_2P 32.768KHz 20ppm 12.5pF; Part Number: NEW; LatestRevisionDate: 09-Feb-2017; LatestRevisionNote: SCHlib build; Publisher: ChenYinaho; Manufacturer: *; Manufacturer Part Number: *; Value: 32.768KHz 20ppm 12.5pF
footprint XTAL-49S-SMT (Footprint not found)
footprint SMD-3215_2P FC - 135
pins: 1, 2

## XTAL-3215_2P_32k_9pF
designator X?, comment FC-135 32.768KHZ 9PF 20PPM
贴片无源晶体3215; Manufacturer: EPSON(爱普生); Part Number: NEW; LatestRevisionDate: 09-Feb-2017; LatestRevisionNote: SCHlib build; Publisher: ChenYinaho; Manufacturer Part Number: FC-13532.768KHZ9PF20PPM; Value: FC-135 32.768KHZ 9PF 20PPM
footprint FC-135 (Footprint not found)
pins: 1, 2

## XTAL-3225_27.12M
designator X?, comment 27.12MHz
贴片无源晶体3225; Part Number: RP02.12.000018; LatestRevisionDate: 09-Feb-2017; LatestRevisionNote: SCHlib build; Publisher: ChenYinaho; Manufacturer: *; Manufacturer Part Number: *; Value: 27.12MHz
footprint XTAL-3225-SMT (Footprint not found)
pins: 1, 2

## XTAL-3225_27.12M_4p
designator X?, comment 27.12MHz 10PF 10PPM
贴片无源晶体3225; Part Number: RP02.12.000020; LatestRevisionDate: 09-Feb-2017; LatestRevisionNote: SCHlib build; Publisher: ChenYinaho; Manufacturer: *; Manufacturer Part Number: *; Value: 27.12MHz 10PF 10PPM
footprint XTAL-3225-SMT (Footprint not found)
pins: 1, 2, 3, 4

## XTAL-5032_8M
designator X?, comment 8MHz 20pF 20ppm
贴片无源晶体5032; Part Number: RP02.12.000029; LatestRevisionDate: 09-Feb-2017; LatestRevisionNote: SCHlib build; Publisher: ChenYinaho; Manufacturer: *; Manufacturer Part Number: *; Value: 8MHz 20pF 20ppm
footprint XTAL-5032-2p (Footprint not found)
pins: 1, 2

## XTAL-5032_25M
designator X?, comment 25MHz 20pF 20ppm
贴片无源晶体5032; Part Number: RP02.12.000028; LatestRevisionDate: 09-Feb-2017; LatestRevisionNote: SCHlib build; Publisher: ChenYinaho; Manufacturer: *; Manufacturer Part Number: *; Value: 25MHz 20pF 20ppm
footprint XTAL-5032-2p (Footprint not found)
pins: 1, 2

## XTAL-MC146_32k
designator X1, comment 32.768kHz
贴片无源晶振7*1.5*1.4/MC-146/32.768kHz 7pF 20PPM; Manufacturer: EPSON; Manufacturer Part Number: MC-146 32.768kHz 7pF +20-20; Part Number: RP02.12.000003; LatestRevisionDate: 09-Feb-2017; LatestRevisionNote: SCHlib build; Publisher: ChenYinaho; Value: 32.768kHz
footprint XTAL-49S-SMT (Footprint not found)
footprint XTAL_MC-146/_SJK6K6
pins: 1, 2, 3, 4

## XTAL-MC-146_32k
designator X?, comment 32.768kHz
贴片无源晶体7*1.5*1.4/MC-146/32.768kHz 7pF 20PPM; Part Number: RP02.12.000003; LatestRevisionDate: 09-Feb-2017; LatestRevisionNote: SCHlib build; Publisher: ChenYinaho; Manufacturer: *; Manufacturer Part Number: *; Value: 32.768kHz
footprint XTAL-49S-SMT (Footprint not found)
footprint XTAL-MC_146-SMT
pins: 1, 2 hidden, 3 hidden, 4

## ZENER-3.9V
designator D?, comment MMSZ5228BT1
稳压二极管3.9V; Part Number: RP02.06.000060; LatestRevisionDate: 09-Feb-2017; LatestRevisionNote: SCHlib build; Publisher: ChenYinaho; Manufacturer: *; Manufacturer Part Number: MMSZ5228BT1; Value: MMSZ5228BT1
footprint SOD-123
pins: 1 A, 2 K

## ZENER-5.1V
designator D?, comment MMSZ5231BT1G
稳压二极管5.1V 500mW; Part Number: RP02.06.000085; LatestRevisionDate: 09-Feb-2017; LatestRevisionNote: SCHlib build; Publisher: ChenYinaho; Manufacturer: *; Manufacturer Part Number: MMSZ5231BT1G; Value: MMSZ5231BT1G
footprint SOD-123
pins: 1 A, 2 K

## ZENER-16V_sot
designator D?, comment BZX84C16
稳压二极管16V 300mW 5mA; Manufacturer: ON/CJ江苏长电; Part Number: NEW; LatestRevisionDate: 09-Feb-2017; LatestRevisionNote: SCHlib build; Publisher: ChenYinaho; Manufacturer Part Number: BZX84C16; Value: BZX84C16
footprint SOT-23
pins: 1 A, 2 NC hidden, 3 K

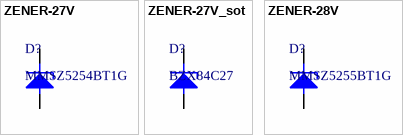
[diagram p10: symbols ZENER-27V to ZENER-28V]

## ZENER-27V
designator D?, comment MMSZ5254BT1G
稳压二极管27V 500mW; Manufacturer: ON; Part Number: NEW; LatestRevisionDate: 09-Feb-2017; LatestRevisionNote: SCHlib build; Publisher: ChenYinaho; Manufacturer Part Number: MMSZ5254BT1G; Value: MMSZ5254BT1G
footprint SOD-123
pins: 1 A, 2 K

## ZENER-27V_sot
designator D?, comment BZX84C27
稳压二极管27V 300mW 5mA; Manufacturer: ON/CJ江苏长电; Part Number: NEW; LatestRevisionDate: 09-Feb-2017; LatestRevisionNote: SCHlib build; Publisher: ChenYinaho; Manufacturer Part Number: BZX84C27; Value: BZX84C27
footprint SOT-23
pins: 1 A, 2 NC hidden, 3 K

## ZENER-28V
designator D?, comment MMSZ5255BT1G
稳压二极管28V 500mW; Manufacturer: ON; Part Number: NEW; LatestRevisionDate: 09-Feb-2017; LatestRevisionNote: SCHlib build; Publisher: ChenYinaho; Manufacturer Part Number: MMSZ5255BT1G; Value: MMSZ5255BT1G
footprint SOD-123
pins: 1 A, 2 K